# EAGLE library part MPU-9150 (library invensense)
9-axis MotionTracking device communicate with I2C Source: http://www.invensense.com/mems/gyro/documents/PS-MPU-9150A-00v4_3.pdf
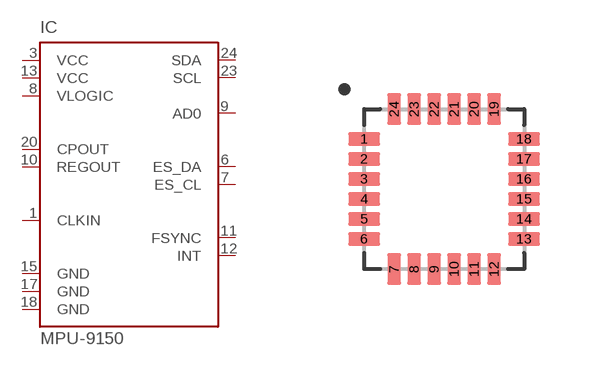
[diagram p0: symbol with the pads of QFN24; footprint QFN24]

Designator prefix IC

## MPU-9150  [QFN24]
1  CLKIN  in
3  VCC  pwr
6  ES_DA
7  ES_CL  out
8  VLOGIC  pwr
9  AD0  in
10  REGOUT  in
11  FSYNC  in
12  INT  out
13  VCC  pwr
15  GND  pwr
17  GND  pwr
18  GND  pwr
20  CPOUT  in
23  SCL  out
24  SDA

## Footprint QFN24 (pad centres in mm)
smd 0.8 x 0.35: 1 -2,1.25; 2 -2,0.75; 3 -2,0.25; 4 -2,-0.25; 5 -2,-0.75; 6 -2,-1.25; 13 2,-1.25; 14 2,-0.75; 15 2,-0.25; 16 2,0.25; 17 2,0.75; 18 2,1.25
smd 0.35 x 0.8: 7 -1.25,-2; 8 -0.75,-2; 9 -0.25,-2; 10 0.25,-2; 11 0.75,-2; 12 1.25,-2; 19 1.25,2; 20 0.75,2; 21 0.25,2; 22 -0.25,2; 23 -0.75,2; 24 -1.25,2